# Altium integrated library ResonatorCrystal.IntLib: 4 symbols
Pins are listed as number, name and electrical type; pins without a type are passive.

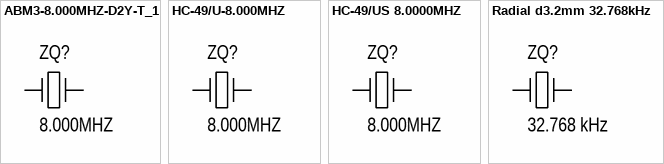
[diagram p0: symbols ABM3-8.000MHZ-D2Y-T_1 to Radial d3.2mm 32.768kHz]

## ABM3-8.000MHZ-D2Y-T_1
designator ZQ?, comment 8.000MHZ
CRYSTAL 8.0000MHZ 18PF SMD; Manufacture: Abracon LLC; Model: ABM3-8.000MHZ-D2Y-T; Name: Кварцевый резонатор; HelpURL: https://www.digikey.com/en/products/detail/abracon-llc/ABM3-8-000MHZ-D2Y-T/2344570?s=N4IgTCBcDaIIICECyBmAtADgHQAY9IAkAtNAETAE00AVEAXQF8g; Value: 8.000MHZ; Case: 2-SMD, No Lead
footprint ABM3-8.000MHZ-D2Y-T
pins: 1, 2

## HC-49/U-8.000MHZ
designator ZQ?, comment 8.000MHZ
8 MHz ±20ppm Crystal 30pF 50 Ohms HC-49/U; Manufacture: IQD Frequency Products; Model: ABM3-8.000MHZ-D2Y-T; Name: Кварцевый резонатор; HelpURL: https://www.digikey.com/en/products/detail/iqd-frequency-products/LFXTAL003147BULK/8633669; Value: 8.000MHZ; Case: HC-49/U
footprint HC-49/U
footprint HC-49/U -- (R)
pins: 1, 2

## HC-49/US 8.0000MHZ
designator ZQ?, comment 8.000MHZ
8 MHz ±20ppm Crystal 30pF 50 Ohms HC-49/U; Manufacture: IQD Frequency Products; Model: LFXTAL078431BULK; Name: Кварцевый резонатор; HelpURL: https://www.digikey.com/en/products/detail/iqd-frequency-products/LFXTAL078431BULK/8633693; Value: 8.000MHZ; Case: HC-49/US
footprint HC-49/US
pins: 1, 2

## Radial d3.2mm 32.768kHz
designator ZQ?, comment 32.768 kHz
32.768 kHz ±20ppm Crystal 12.5pF 30 kOhms Cylindrical Can, Radial; Manufacture: Meritek; Model: MXTPBFA32K768; Name: Кварцевый резонатор; HelpURL: https://www.digikey.com/en/products/detail/meritek/MXTPBFA32K768/15775256; Value: 32.768 kHz; Case: Radial d3.0mm
footprint Radial 32.768KHZ h=1.1
footprint Radial 32.768KHZ h=1.1 -- (R)
footprint Radial 32.768KHZ h=3.0 -- (R)
footprint Radial 32.768KHZ h=3.06
footprint Radial 32.768KHZ h=1.1 -- (R+SMD)
pins: 1, 2